# Altium schematic symbol library BSS138.SchLib: 1 symbol
Pins are listed as number, name and electrical type; pins without a type are passive.

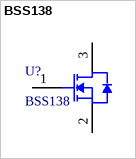
[diagram p0: symbol BSS138]

## BSS138
designator U?
footprint BSS138
pins: 1 G "gate", 2 S "source", 3 D "drain"